# EAGLE library part DS2482 (library Skoba)
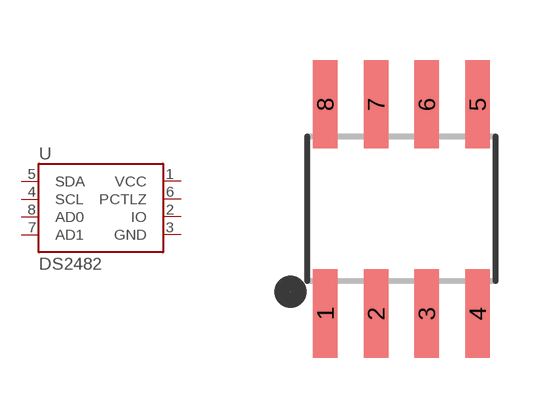
[diagram p6: symbol with the pads of SO08; footprint SO08]

Designator prefix U

## DS2482  [SO08]
1  VCC
2  IO
3  GND
4  SCL
5  SDA
6  PCTLZ
7  AD1
8  AD0

## Footprint SO08 (pad centres in mm)
Small Outline Package Fits JEDEC packages (narrow SOIC-8)
smd 0.61 x 2.21: 1 -1.905,-2.616; 2 -0.635,-2.616; 3 0.635,-2.616; 4 1.905,-2.616; 5 1.905,2.616; 6 0.635,2.616; 7 -0.635,2.616; 8 -1.905,2.616